# Altium schematic symbol library UCC24650DBVR.SchLib: 1 symbol
Pins are listed as number, name and electrical type; pins without a type are passive.

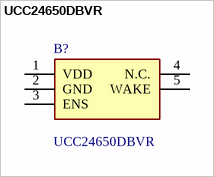
[diagram p0: symbol UCC24650DBVR]

## UCC24650DBVR
designator B?
200-V Wake-up Monitor for Fast Transient Primary-side Regulation; Manufacturer_Name: Texas Instruments; Geometry.Height: 1.45mm; Manufacturer_Part_Number: UCC24650DBVR; Mouser Part Number: 595-UCC24650DBVR; Mouser Price/Stock: https://www.mouser.co.uk/ProductDetail/Texas-Instruments/UCC24650DBVR?qs=Lb6%252B0IsOw48DAHpAvVALpw%3D%3D; Arrow Part Number: UCC24650DBVR; Arrow Price/Stock: https://www.arrow.com/en/products/ucc24650dbvr/texas-instruments; Mouser Testing Part Number: *; Mouser Testing Price/Stock: *; Datasheet Link: http://www.ti.com/lit/gpn/ucc24650
footprint SOT95P280X145-5N
pins: 1 VDD, 2 GND, 3 ENS, 4 N.C., 5 WAKE